# EAGLE library part DIP-BLACK-MALE-HEADER(7P-2.54-90D) (library Seeed-OPL-Connector)
320020093
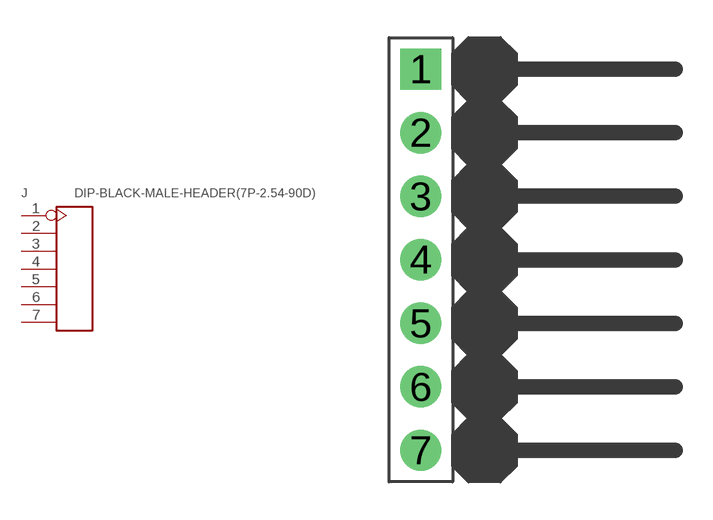
[diagram p139: symbol with the pads of H7-2.54-90D-MALE; footprint H7-2.54-90D-MALE]

Designator prefix J

## DIP-BLACK-MALE-HEADER(7P-2.54-90D) (MPN: P125-1107A0BR138A1; VALUE: 7p-2.54-90d)  [H7-2.54-90D-MALE]
1  1
2  2
3  3
4  4
5  5
6  6
7  7

## Footprint H7-2.54-90D-MALE (pad centres in mm)
drill 0.889 pad 1.651 square: 1 0,7.62
drill 0.889 pad 1.651: 2 0,5.08; 3 0,2.54; 4 0,0; 5 0,-2.54; 6 0,-5.08; 7 0,-7.62